# Altium footprint library J 接插件.PcbLib: 458 footprints (part 8 of 29)
Each footprint in its own frame and in the unit in brackets; x right, y up, seen from the top. Pads: shape width x height; smd on the part's side, far side on the other; paste and mask are expansions set on the pad; w line width, h text height; cw(c..) or ccw(c..) is an arc to the next point about the centre after c.
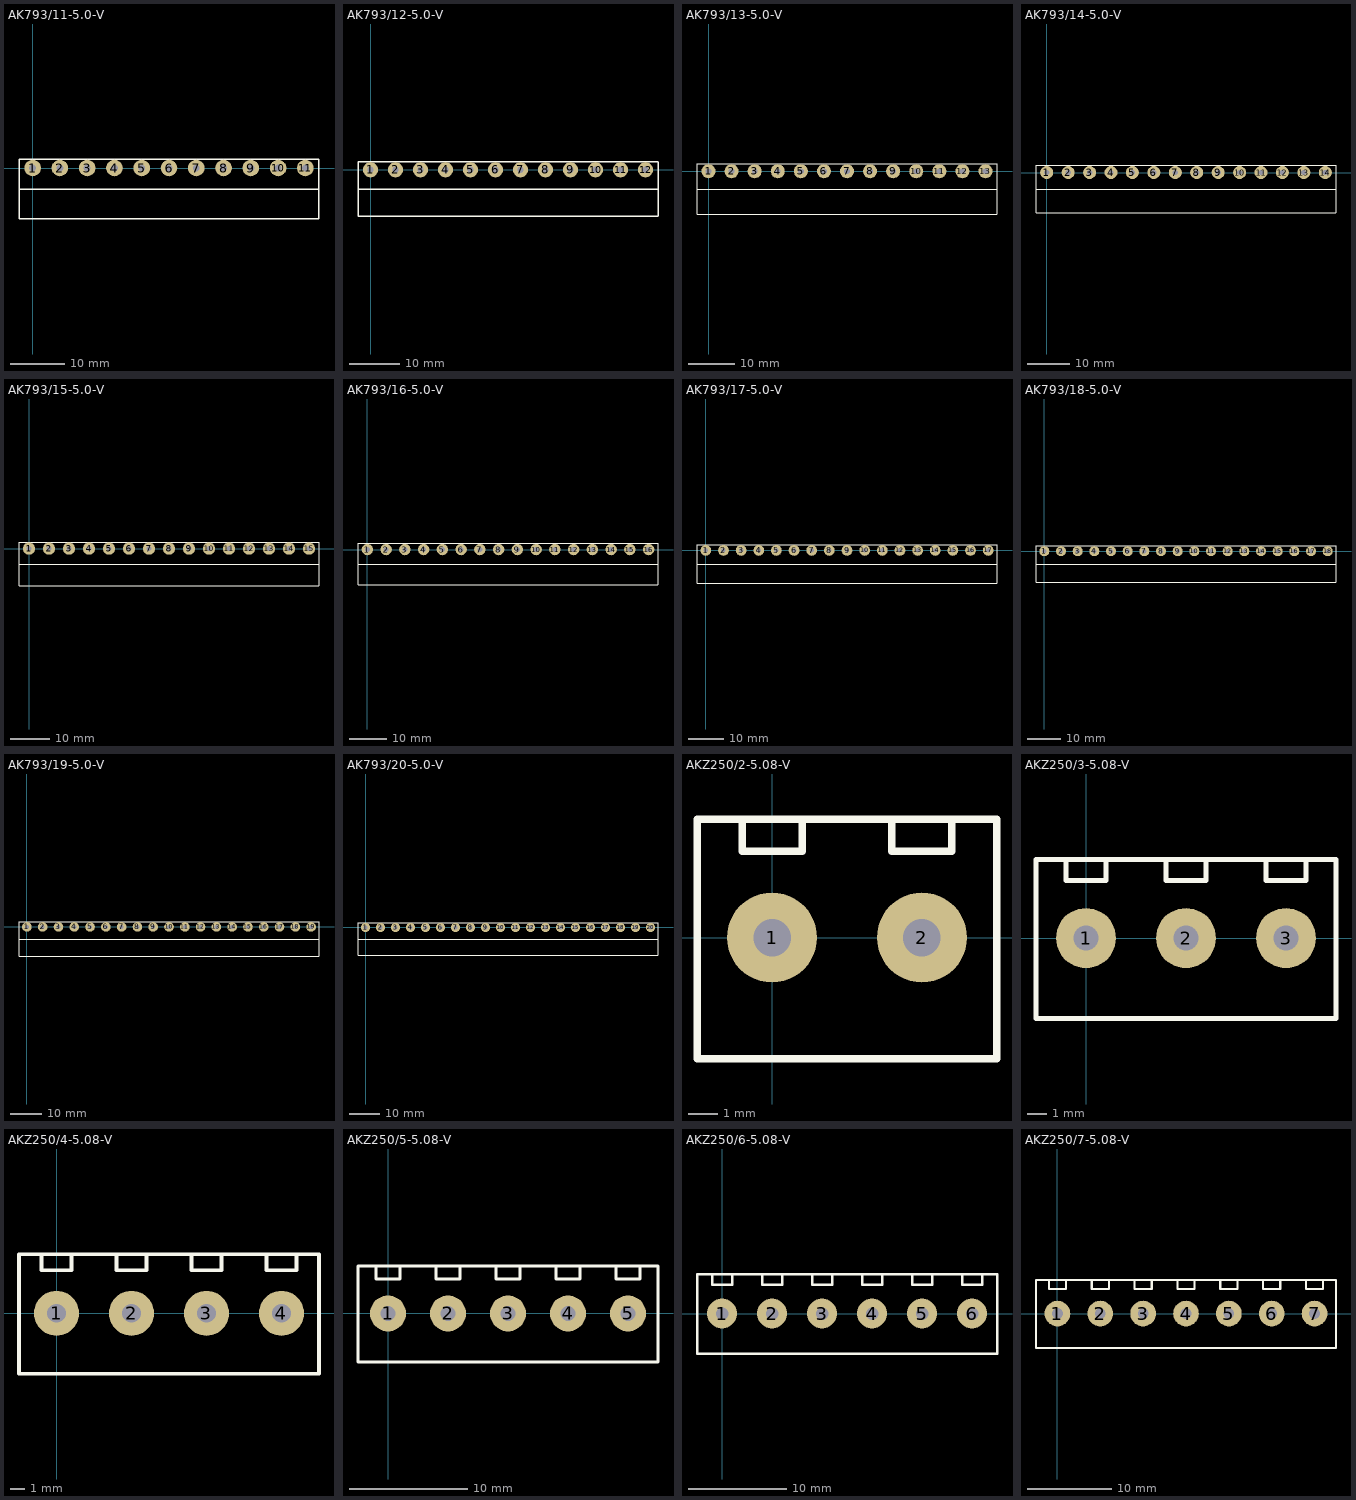
[diagram p7: the footprints below, top view; thin cyan lines are the x and y axes]

## AK793/11-5.0-V [mil] "美卡诺 AKZ793 接触件 间距：5.0   11Pin"
height 1236.22
pads (11):
  round 120 hole 50: 1(0,0) 2(196.85,0) 3(393.7,0) 4(590.55,0) 5(787.4,0) 6(984.25,0) 7(1181.1,0) 8(1377.95,0) 9(1574.8,0) 10(1771.65,0) 11(1968.5,0)
Top Overlay:
  lines w10: -98.43,-151.57 2066.93,-151.57 ; -98.43,-368.11 2066.93,-368.11 2066.93,64.96 -98.43,64.96 -98.43,-368.11

## AK793/12-5.0-V [mil] "美卡诺 AKZ793 接触件 间距：5.0   12Pin"
height 1236.22
pads (12):
  round 120 hole 50: 1(0,0) 2(196.85,0) 3(393.7,0) 4(590.55,0) 5(787.4,0) 6(984.25,0) 7(1181.1,0) 8(1377.95,0) 9(1574.8,0) 10(1771.65,0) 11(1968.5,0) 12(2165.35,0)
Top Overlay:
  lines w10: -98.43,-151.57 2263.78,-151.57 ; -98.43,-368.11 -98.43,64.96 2263.78,64.96 2263.78,-368.11 -98.43,-368.11

## AK793/13-5.0-V [mil] "美卡诺 AKZ793 接触件 间距：5.0   13Pin"
height 1236.22
pads (13):
  round 120 hole 50: 1(0,0) 2(196.85,0) 3(393.7,0) 4(590.55,0) 5(787.4,0) 6(984.25,0) 7(1181.1,0) 8(1377.95,0) 9(1574.8,0) 10(1771.65,0) 11(1968.5,0) 12(2165.35,0) 13(2362.2,0)
Top Overlay:
  lines w10: -98.43,-151.57 2460.63,-151.57 ; -98.43,-368.11 2460.63,-368.11 2460.63,64.96 -98.43,64.96 -98.43,-368.11

## AK793/14-5.0-V [mil] "美卡诺 AKZ793 接触件 间距：5.0   14Pin"
height 1236.22
pads (14):
  round 120 hole 50: 1(0,0) 2(196.85,0) 3(393.7,0) 4(590.55,0) 5(787.4,0) 6(984.25,0) 7(1181.1,0) 8(1377.95,0) 9(1574.8,0) 10(1771.65,0) 11(1968.5,0) 12(2165.35,0) 13(2362.2,0) 14(2559.06,0)
Top Overlay:
  lines w10: -98.43,-151.57 2657.48,-151.57 ; -98.43,-368.11 -98.43,64.96 2657.48,64.96 2657.48,-368.11 -98.43,-368.11

## AK793/15-5.0-V [mil] "美卡诺 AKZ793 接触件 间距：5.0   15Pin"
height 1236.22
pads (15):
  round 120 hole 50: 1(0,0) 2(196.85,0) 3(393.7,0) 4(590.55,0) 5(787.4,0) 6(984.25,0) 7(1181.1,0) 8(1377.95,0) 9(1574.8,0) 10(1771.65,0) 11(1968.5,0) 12(2165.35,0) 13(2362.2,0) 14(2559.06,0) 15(2755.91,0)
Top Overlay:
  lines w10: -98.43,-151.57 2854.33,-151.57 ; -98.43,-368.11 2854.33,-368.11 2854.33,64.96 -98.43,64.96 -98.43,-368.11

## AK793/16-5.0-V [mil] "美卡诺 AKZ793 接触件 间距：5.0   16Pin"
height 1236.22
pads (16):
  round 120 hole 50: 1(0,0) 2(196.85,0) 3(393.7,0) 4(590.55,0) 5(787.4,0) 6(984.25,0) 7(1181.1,0) 8(1377.95,0) 9(1574.8,0) 10(1771.65,0) 11(1968.5,0) 12(2165.35,0) 13(2362.2,0) 14(2559.06,0) 15(2755.91,0) 16(2952.76,0)
Top Overlay:
  lines w10: -98.43,-151.57 3051.18,-151.57 ; -98.43,-368.11 3051.18,-368.11 3051.18,64.96 -98.43,64.96 -98.43,-368.11

## AK793/17-5.0-V [mil] "美卡诺 AKZ793 接触件 间距：5.0   17Pin"
height 1236.22
pads (17):
  round 120 hole 50: 1(0,0) 2(196.85,0) 3(393.7,0) 4(590.55,0) 5(787.4,0) 6(984.25,0) 7(1181.1,0) 8(1377.95,0) 9(1574.8,0) 10(1771.65,0) 11(1968.5,0) 12(2165.35,0) 13(2362.2,0) 14(2559.06,0) 15(2755.91,0) 16(2952.76,0) 17(3149.61,0)
Top Overlay:
  lines w10: -98.43,-151.57 3248.03,-151.57 ; -98.43,-368.11 -98.43,64.96 3248.03,64.96 3248.03,-368.11 -98.43,-368.11

## AK793/18-5.0-V [mil] "美卡诺 AKZ793 接触件 间距：5.0   18Pin"
height 1236.22
pads (18):
  round 120 hole 50: 1(0,0) 2(196.85,0) 3(393.7,0) 4(590.55,0) 5(787.4,0) 6(984.25,0) 7(1181.1,0) 8(1377.95,0) 9(1574.8,0) 10(1771.65,0) 11(1968.5,0) 12(2165.35,0) 13(2362.2,0) 14(2559.06,0) 15(2755.91,0) 16(2952.76,0) 17(3149.61,0) 18(3346.46,0)
Top Overlay:
  lines w10: -98.43,-151.57 3444.88,-151.57 ; -98.43,-368.11 -98.43,64.96 3444.88,64.96 3444.88,-368.11 -98.43,-368.11

## AK793/19-5.0-V [mil] "美卡诺 AKZ793 接触件 间距：5.0   19Pin"
height 1236.22
pads (19):
  round 120 hole 50: 1(0,0) 2(196.85,0) 3(393.7,0) 4(590.55,0) 5(787.4,0) 6(984.25,0) 7(1181.1,0) 8(1377.95,0) 9(1574.8,0) 10(1771.65,0) 11(1968.5,0) 12(2165.35,0) 13(2362.2,0) 14(2559.06,0) 15(2755.91,0) 16(2952.76,0) 17(3149.61,0) 18(3346.46,0) 19(3543.31,0)
Top Overlay:
  lines w10: -98.43,-151.57 3641.73,-151.57 ; -98.43,-368.11 3641.73,-368.11 3641.73,64.96 -98.43,64.96 -98.43,-368.11

## AK793/20-5.0-V [mil] "美卡诺 AKZ793 接触件 间距：5.0   20Pin"
height 1236.22
pads (20):
  round 120 hole 50: 1(0,0) 2(196.85,0) 3(393.7,0) 4(590.55,0) 5(787.4,0) 6(984.25,0) 7(1181.1,0) 8(1377.95,0) 9(1574.8,0) 10(1771.65,0) 11(1968.5,0) 12(2165.35,0) 13(2362.2,0) 14(2559.06,0) 15(2755.91,0) 16(2952.76,0) 17(3149.61,0) 18(3346.46,0) 19(3543.31,0) 20(3740.16,0)
Top Overlay:
  lines w10: -98.43,-151.57 3838.58,-151.57 ; -98.43,-368.11 -98.43,64.96 3838.58,64.96 3838.58,-368.11 -98.43,-368.11

## AKZ250/2-5.08-V [mil] "美卡诺 AKZ350 接触件 间距：5.08   2Pin"
height 393.7
pads (2):
  round 120 hole 50: 1(0,0) 2(200,0)
Top Overlay:
  lines w10: -40,155 -40,115 40,115 40,155 ; 160,155 160,115 240,115 240,155 ; -100,-161.42 -100,157.48 300,157.48 300,-161.42 -100,-161.42

## AKZ250/3-5.08-V [mil] "美卡诺 AKZ350 接触件 间距：5.08   3Pin"
height 393.7
pads (3):
  round 120 hole 50: 1(0,0) 2(200,0) 3(400,0)
Top Overlay:
  lines w10: -40,155 -40,115 40,115 40,155 ; 160,155 160,115 240,115 240,155 ; 360,155 360,115 440,115 440,155 ; -100,-161.42 -100,157.48 500,157.48 500,-161.42 -100,-161.42

## AKZ250/4-5.08-V [mil] "美卡诺 AKZ350 接触件 间距：5.08   4Pin"
height 393.7
pads (4):
  round 120 hole 50: 1(0,0) 2(200,0) 3(400,0) 4(600,0)
Top Overlay:
  lines w10: -40,155 -40,115 40,115 40,155 ; 160,155 160,115 240,115 240,155 ; 360,155 360,115 440,115 440,155 ; 560,155 560,115 640,115 640,155 ; -100,-161.42 -100,157.48 700,157.48 700,-161.42 -100,-161.42

## AKZ250/5-5.08-V [mil] "美卡诺 AKZ350 接触件 间距：5.08   5Pin"
height 393.7
pads (5):
  round 120 hole 50: 1(0,0) 2(200,0) 3(400,0) 4(600,0) 5(800,0)
Top Overlay:
  lines w10: -40,155 -40,115 40,115 40,155 ; 160,155 160,115 240,115 240,155 ; 360,155 360,115 440,115 440,155 ; 560,155 560,115 640,115 640,155 ; 760,155 760,115 840,115 840,155 ; -100,-161.42 -100,157.48 900,157.48 900,-161.42 -100,-161.42

## AKZ250/6-5.08-V [mil] "美卡诺 AKZ350 接触件 间距：5.08   6Pin"
height 393.7
pads (6):
  round 120 hole 50: 1(0,0) 2(200,0) 3(400,0) 4(600,0) 5(800,0) 6(1000,0)
Top Overlay:
  lines w10: -40,155 -40,115 40,115 40,155 ; 160,155 160,115 240,115 240,155 ; 360,155 360,115 440,115 440,155 ; 560,155 560,115 640,115 640,155 ; 760,155 760,115 840,115 840,155 ; 960,155 960,115 1040,115 1040,155 ; -100,-161.42 -100,157.48 1100,157.48 1100,-161.42 -100,-161.42

## AKZ250/7-5.08-V [mil] "美卡诺 AKZ350 接触件 间距：5.08   7Pin"
height 393.7
pads (7):
  round 120 hole 50: 1(0,0) 2(200,0) 3(400,0) 4(600,0) 5(800,0) 6(1000,0) 7(1200,0)
Top Overlay:
  lines w10: -40,155 -40,115 40,115 40,155 ; 160,155 160,115 240,115 240,155 ; 360,155 360,115 440,115 440,155 ; 560,155 560,115 640,115 640,155 ; 760,155 760,115 840,115 840,155 ; 960,155 960,115 1040,115 1040,155 ; 1160,155 1160,115 1240,115 1240,155 ; -100,-161.42 1300,-161.42 1300,157.48 -100,157.48 -100,-161.42